# EAGLE library part CD4066B (library My Library)
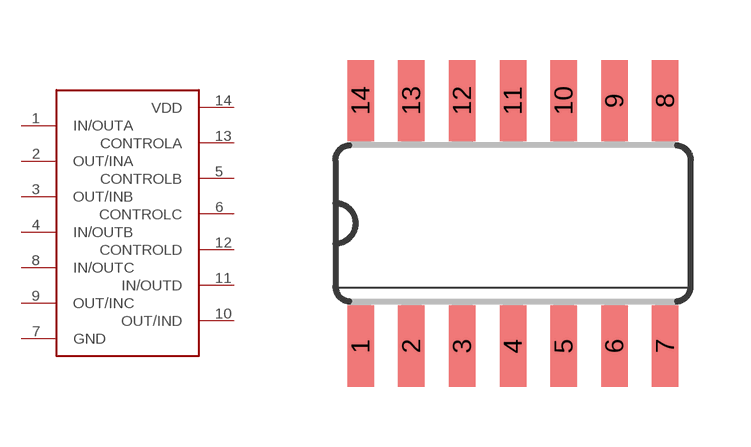
[diagram p8: symbol with the pads of SO14; footprint SO14]

Designator prefix -

## CD4066B  [SO14]
1  IN/OUTA
2  OUT/INA
3  OUT/INB
4  IN/OUTB
5  CONTROLB
6  CONTROLC
7  GND
8  IN/OUTC
9  OUT/INC
10  OUT/IND
11  IN/OUTD
12  CONTROLD
13  CONTROLA
14  VDD

## Footprint SO14 (pad centres in mm)
Small Outline package 150 mil
smd 0.66 x 2.032: 1 -3.81,-3.073; 2 -2.54,-3.073; 3 -1.27,-3.073; 4 0,-3.073; 5 1.27,-3.073; 6 2.54,-3.073; 7 3.81,-3.073; 8 3.81,3.073; 9 2.54,3.073; 10 1.27,3.073; 11 0,3.073; 12 -1.27,3.073; 13 -2.54,3.073; 14 -3.81,3.073